# Altium schematic symbol library STM32主处理板.SchLib: 28 symbols
Pins are listed as number, name and electrical type; pins without a type are passive.

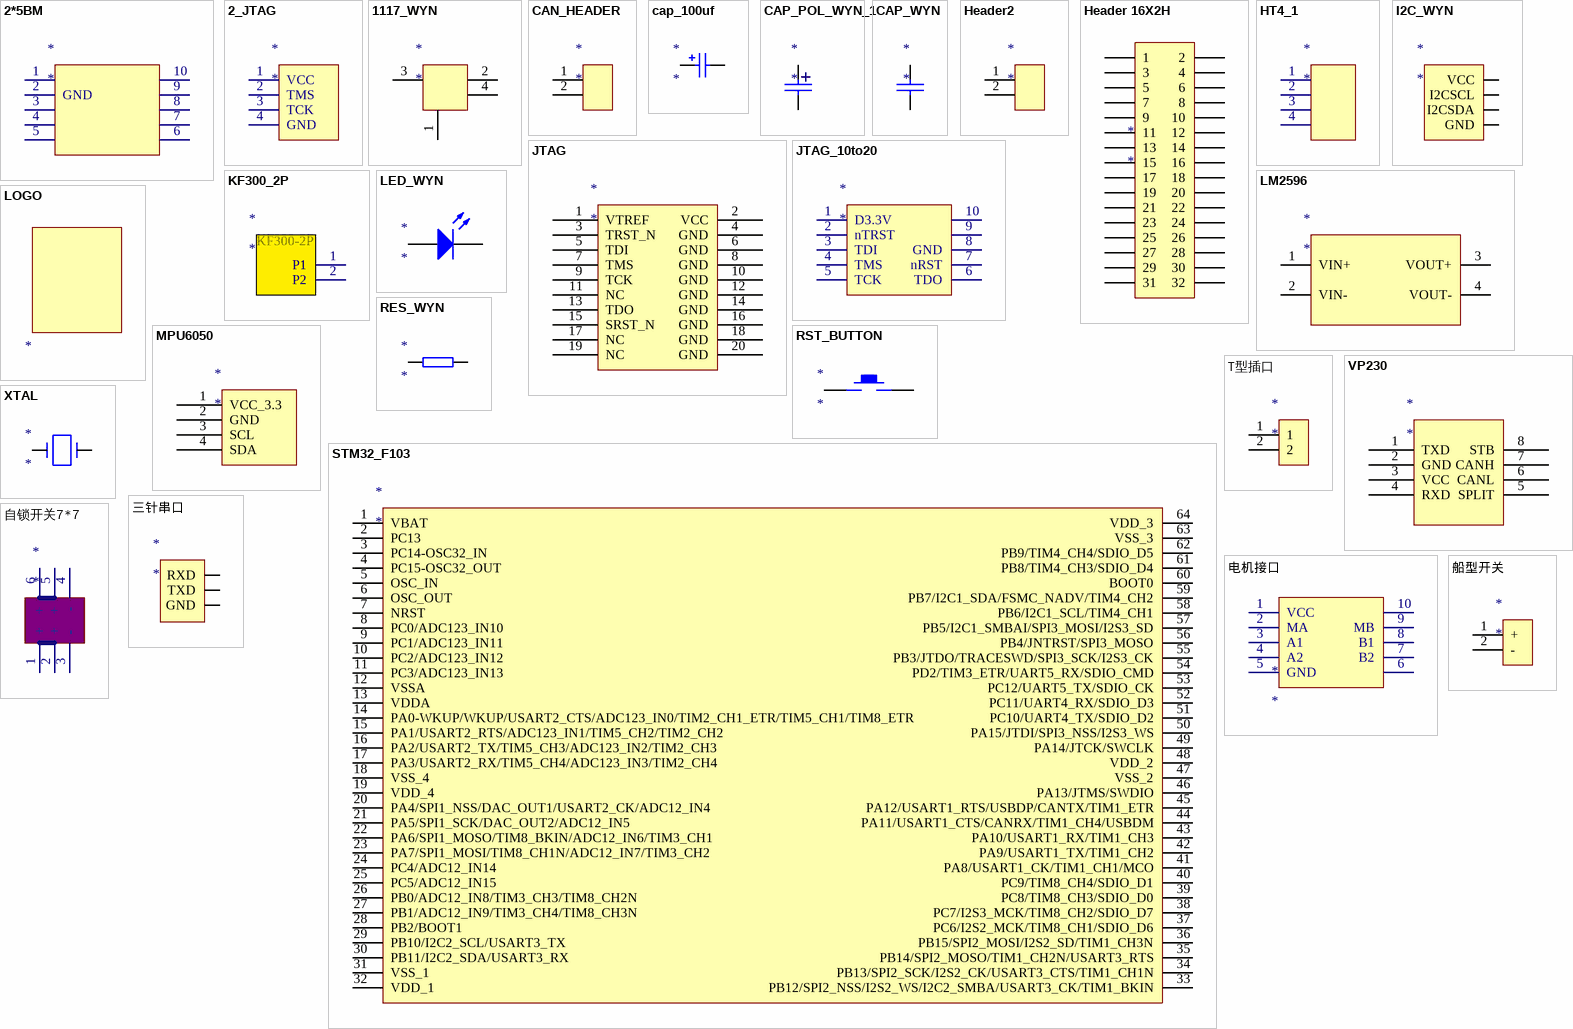
[diagram p0: symbols 2*5BM to 船型开关]

## 2*5BM
designator *
footprint JTAG_10to20
pins: 1, 2 GND, 3, 4, 5, 6, 7, 8, 9, 10

## 2_JTAG
designator *
footprint 2_JTAG
footprint HDR1X5
pins: 1 VCC, 2 TMS, 3 TCK, 4 GND

## 1117_WYN
designator *
footprint SOT-223_WYN
pins: 1, 2, 3, 4

## CAN_HEADER
designator *
footprint CAN_HEAD
footprint CAN_HEAD_XH2.54-2P
footprint XH2.45_2P直
pins: 1, 2

## cap_100uf
designator *
footprint 电解电容2.54
pins: 1, 2

## CAP_POL_WYN_1
designator *
footprint 0805_WYN
pins: 1, 2

## CAP_WYN
designator *
footprint 0603_WYH
pins: 1, 2

## Header2
designator *
footprint HDR1X2
footprint XH2.45_2P弯
footprint KF300-2P
pins: 1, 2

## Header 16X2H
designator *
footprint HDR2X16
pins: 1, 2, 3, 4, 5, 6, 7, 8, 9, 10, 11, 12, 13, 14, 15, 16, 17, 18, 19, 20, 21, 22, 23, 24, 25, 26, 27, 28, 29, 30, 31, 32

## HT4_1
designator *
footprint HT3.96-4PL
pins: 1, 2, 3, 4

## I2C_WYN
designator *
footprint 4X1_2.54_WYN
pins: 1 VCC, 2 I2CSCL, 3 I2CSDA, 4 GND

## JTAG
designator *
footprint JTAG_20
pins: 1 VTREF, 2 VCC, 3 TRST_N, 4 GND, 5 TDI, 6 GND, 7 TMS, 8 GND, 9 TCK, 10 GND, 11 NC, 12 GND, 13 TDO, 14 GND, 15 SRST_N, 16 GND, 17 NC, 18 GND, 19 NC, 20 GND

## JTAG_10to20
designator *
footprint JTAG_10to20
pins: 1 D3.3V, 2 nTRST, 3 TDI, 4 TMS, 5 TCK, 6 TDO, 7 nRST, 8 GND, 9, 10

## KF300_2P
designator *
footprint KF300-2P
pins: 1 P1, 2 P2
text: KF300-2P

## LED_WYN
designator *
footprint 极性0805_WYN
pins: 1 A, 2 K

## LM2596
designator *
footprint LM2596
pins: 1 VIN+, 2 VIN-, 3 VOUT+, 4 VOUT-

## LOGO
designator ?
footprint LOGO

## MPU6050
designator *
footprint MPU6050
pins: 1 VCC_3.3, 2 GND, 3 SCL, 4 SDA

## RES_WYN
designator *
footprint 0805_WYN
pins: 1, 2

## RST_BUTTON
designator *
footprint RST_BUTTON
footprint CLCK
pins: 1, 2

## STM32_F103
designator *
footprint STM32TSQFP50P1200X1200X160-64N (TSQFP, 64-Leads, Body 12.0x12.0mm (max), Pitch 0.50mm, IPC Medium Density)
pins: 1 VBAT, 2 PC13, 3 PC14-OSC32_IN, 4 PC15-OSC32_OUT, 5 OSC_IN, 6 OSC_OUT, 7 NRST, 8 PC0/ADC123_IN10, 9 PC1/ADC123_IN11, 10 PC2/ADC123_IN12, 11 PC3/ADC123_IN13, 12 VSSA, 13 VDDA, 14 PA0-WKUP/WKUP/USART2_CTS/ADC123_IN0/TIM2_CH1_ETR/TIM5_CH1/TIM8_ETR, 15 PA1/USART2_RTS/ADC123_IN1/TIM5_CH2/TIM2_CH2, 16 PA2/USART2_TX/TIM5_CH3/ADC123_IN2/TIM2_CH3, 17 PA3/USART2_RX/TIM5_CH4/ADC123_IN3/TIM2_CH4, 18 VSS_4, 19 VDD_4, 20 PA4/SPI1_NSS/DAC_OUT1/USART2_CK/ADC12_IN4, 21 PA5/SPI1_SCK/DAC_OUT2/ADC12_IN5, 22 PA6/SPI1_MOSO/TIM8_BKIN/ADC12_IN6/TIM3_CH1, 23 PA7/SPI1_MOSI/TIM8_CH1N/ADC12_IN7/TIM3_CH2, 24 PC4/ADC12_IN14, 25 PC5/ADC12_IN15, 26 PB0/ADC12_IN8/TIM3_CH3/TIM8_CH2N, 27 PB1/ADC12_IN9/TIM3_CH4/TIM8_CH3N, 28 PB2/BOOT1, 29 PB10/I2C2_SCL/USART3_TX, 30 PB11/I2C2_SDA/USART3_RX, 31 VSS_1, 32 VDD_1, 33 PB12/SPI2_NSS/I2S2_WS/I2C2_SMBA/USART3_CK/TIM1_BKIN, 34 PB13/SPI2_SCK/I2S2_CK/USART3_CTS/TIM1_CH1N, 35 PB14/SPI2_MOSO/TIM1_CH2N/USART3_RTS, 36 PB15/SPI2_MOSI/I2S2_SD/TIM1_CH3N, 37 PC6/I2S2_MCK/TIM8_CH1/SDIO_D6, 38 PC7/I2S3_MCK/TIM8_CH2/SDIO_D7, 39 PC8/TIM8_CH3/SDIO_D0, 40 PC9/TIM8_CH4/SDIO_D1, 41 PA8/USART1_CK/TIM1_CH1/MCO, 42 PA9/USART1_TX/TIM1_CH2, 43 PA10/USART1_RX/TIM1_CH3, 44 PA11/USART1_CTS/CANRX/TIM1_CH4/USBDM, 45 PA12/USART1_RTS/USBDP/CANTX/TIM1_ETR, 46 PA13/JTMS/SWDIO, 47 VSS_2, 48 VDD_2, 49 PA14/JTCK/SWCLK, 50 PA15/JTDI/SPI3_NSS/I2S3_WS, 51 PC10/UART4_TX/SDIO_D2, 52 PC11/UART4_RX/SDIO_D3, 53 PC12/UART5_TX/SDIO_CK, 54 PD2/TIM3_ETR/UART5_RX/SDIO_CMD, 55 PB3/JTDO/TRACESWD/SPI3_SCK/I2S3_CK, 56 PB4/JNTRST/SPI3_MOSO, 57 PB5/I2C1_SMBAI/SPI3_MOSI/I2S3_SD, 58 PB6/I2C1_SCL/TIM4_CH1, 59 PB7/I2C1_SDA/FSMC_NADV/TIM4_CH2, 60 BOOT0, 61 PB8/TIM4_CH3/SDIO_D4, 62 PB9/TIM4_CH4/SDIO_D5, 63 VSS_3, 64 VDD_3

## T型插口
designator *
footprint T型插头
pins: 1, 2

## VP230
designator *
footprint VP230
pins: 1 TXD, 2 GND, 3 VCC, 4 RXD, 5 SPLIT, 6 CANL, 7 CANH, 8 STB

## XTAL
designator *
footprint XTAL_D
pins: 1, 2

## 三针串口
designator *
footprint HDR1X3 (Connector; Header; 3 Position)
pins: 1 RXD, 2 TXD, 3 GND

## 电机接口
designator *
footprint JTAG_10to20
pins: 1 VCC, 2 MA, 3 A1, 4 A2, 5 GND, 6, 7 B2, 8 B1, 9 MB, 10

## 自锁开关7*7
designator *
footprint 自锁开关7*7
pins: 1 +, 2 +, 3 -, 4 -, 5 +, 6 +

## 船型开关
designator *
footprint 船型开关
pins: 1 +, 2 -